# Altium schematic symbol library inductors.SchLib: 4 symbols
Pins are listed as number, name and electrical type; pins without a type are passive.

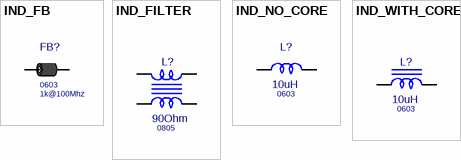
[diagram p0: symbols IND_FB to IND_WITH_CORE]

## IND_FB
designator FB?, comment 1k@100Mhz  PackageReference: 0603
Chip Bead Ferrite; Value: BLM18AG102SN1D
footprint IND0603 (Chip Inductor, 2-Leads, Body 1.60x0.80mm, IPC Medium Density)
footprint IND0805 (Chip Inductor, 2-Leads, Body 2.00x1.25mm, IPC Medium Density)
footprint IND0402 (Chip Inductor, 2-Leads, Body 1.00x0.50mm, IPC Medium Density)
pins: 1, 2

## IND_FILTER
designator L?, comment 90Ohm  PackageReference: 0805
Signal Line Common Mode Chokes/Filters; Value: ACM2012-900-2P-T002
footprint SIMDAD-1812 (Common-mode chokes, 2 leads, Body 5,20x3,20mm, IPC Medium Density)
pins: 1, 2, 3, 4

## IND_NO_CORE
designator L?, comment 10uH  PackageReference: 0603
IND_NO_CORE; Value: IND_NO_CORE
footprint IND0603 (Chip Inductor, 2-Leads, Body 1.60x0.80mm, IPC Medium Density)
footprint IND0805
pins: 1, 2

## IND_WITH_CORE
designator L?, comment 10uH  PackageReference: 0603
IND_WITH_CORE; Value: IND_WITH_CORE
footprint IND0603 (Chip Inductor, 2-Leads, Body 1.60x0.80mm, IPC Medium Density)
footprint IND0805 (Chip Inductor, 2-Leads, Body 2.00x1.25mm, IPC Medium Density)
footprint IND1206 (Chip Inductor, 2-Leads, Body 3.20x1.60mm, IPC Medium Density)
footprint IND_8X8
footprint IND_12.5x12.5
footprint IND_19.2X19.2
footprint CDRH3D16 (Precision Wire Wound Inductor, 2-Leads, Body 3,90x3,90mm, IPC Medium Density)
footprint CDRH4D28 (SMD Power Inductor CDRH4D28)
footprint CDRH6D28 (SMD Power Inductor CDRH6D28)
footprint CDRH104R (SMD Power Inductor, 10.5x10.3x4.0mm max)
footprint IHLP-1616BZ (IHLP-1616BZ Inductor, 2-Leads, Body 4.13x4.13mm, IPC Medium Density)
footprint IHLP-2525CZ (Low-Profile, High-Current IHLP® Inductor)
footprint IHLP-3232CZ (IHLP® Commercial Inductors, Low DCR Series, Body 8,41x8,18mm, IPC Medium Density)
footprint IHLP-4040DZ (Low Profile, High Current IHLP® Inductor, 2-Leads, Body 10,30x10,30mm, IPC Medium Density)
footprint IHLP-5050CE
footprint IND_COIL_TH_33x18
footprint IND1008
footprint CDRH2D18 (Wire Wound Inductor, 2-Leads, Body 3,00x3,00mm, IPC High Density)
pins: 1, 2